# EAGLE library part DECADE-MAX1811 (library DECADE-libraries)
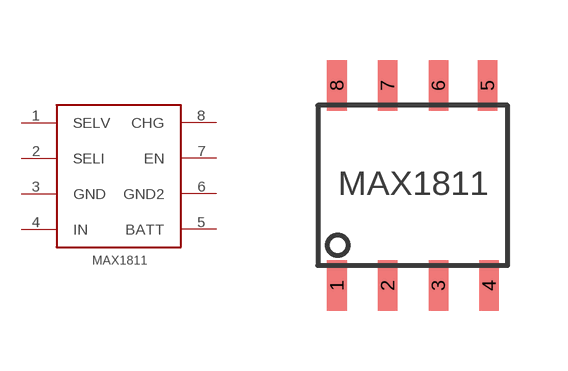
[diagram p5: symbol with the pads of DECADE-MAX1811; footprint DECADE-MAX1811]

Designator prefix -

## DECADE-MAX1811  [DECADE-MAX1811]
1  SELV
2  SELI
3  GND
4  IN
5  BATT
6  GND2
7  EN
8  CHG

## Footprint DECADE-MAX1811 (pad centres in mm)
smd 0.49 x 1.27: 1 -1.27,0; 2 0,0; 3 1.27,0; 4 2.54,0; 5 2.5,5; 6 1.27,5; 7 0,5; 8 -1.27,5